# EAGLE library part TRAFO_2SEC (library 1-my-library)
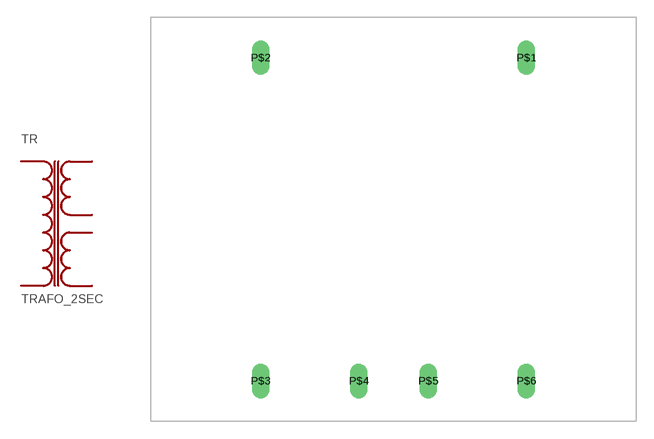
[diagram p2: symbol with the pads of TRAFO_2SEC; footprint TRAFO_2SEC]

Designator prefix TR

## TRAFO_2SEC  [TRAFO_2SEC]
P$1  P$1  in
P$2  P$2  in
P$3  P$3  out
P$4  P$4  out
P$5  P$5  out
P$6  P$6  out

## Footprint TRAFO_2SEC (pad centres in mm)
drill 1 long: P$1 32.5,31.5; P$2 9.5,31.5; P$3 9.5,3.5; P$4 18,3.5; P$5 24,3.5; P$6 32.5,3.5